# EAGLE library part ISP-POGO-HOLDER (library pogo-isp)
ISP pogo pin holder for pins with 0.68mm diameter.
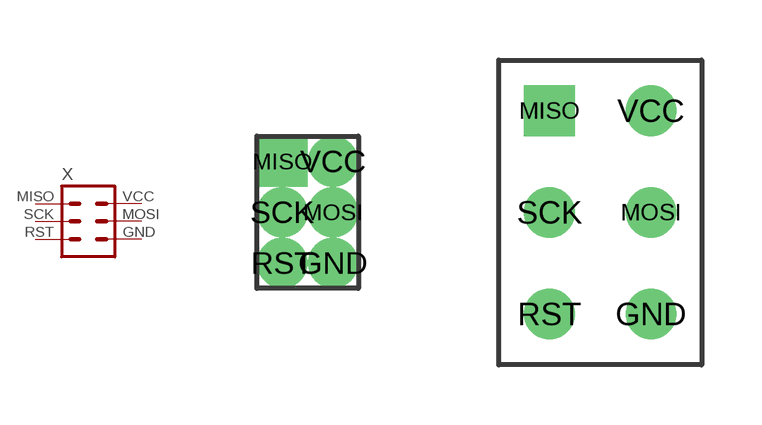
[diagram p1: symbol with the pads of ISP-POGO-HOLDER-1.27MM; footprints ISP-POGO-HOLDER-1.27MM, ISP-POGO-HOLDER-2.54MM]

Designator prefix X

## ISP-POGO-HOLDER1.27MM  [ISP-POGO-HOLDER-1.27MM]
GND  GND  pas
MISO  MISO  pas
MOSI  MOSI  pas
RST  RST  pas
SCK  SCK  pas
VCC  VCC  pas

## ISP-POGO-HOLDER2.54MM  [ISP-POGO-HOLDER-2.54MM]
Pads as for ISP-POGO-HOLDER-1.27MM

## Footprint ISP-POGO-HOLDER-1.27MM (pad centres in mm)
For 0,68mm pogo pins RM 1.27mm
drill 0.75 pad 1.016: GND 0.635,-1.27; MOSI 0.635,0; RST -0.635,-1.27; SCK -0.635,0; VCC 0.635,1.27
drill 0.75 pad 1.016 square: MISO -0.635,1.27

## Footprint ISP-POGO-HOLDER-2.54MM (pad centres in mm)
drill 0.75 pad 1.27: GND 1.27,-2.54; MOSI 1.27,0; RST -1.27,-2.54; SCK -1.27,0; VCC 1.27,2.54
drill 0.75 pad 1.27 square: MISO -1.27,2.54